# Altium schematic symbol library ARCOM_Connectors.SchLib: 79 symbols
Pins are listed as number, name and electrical type; pins without a type are passive.

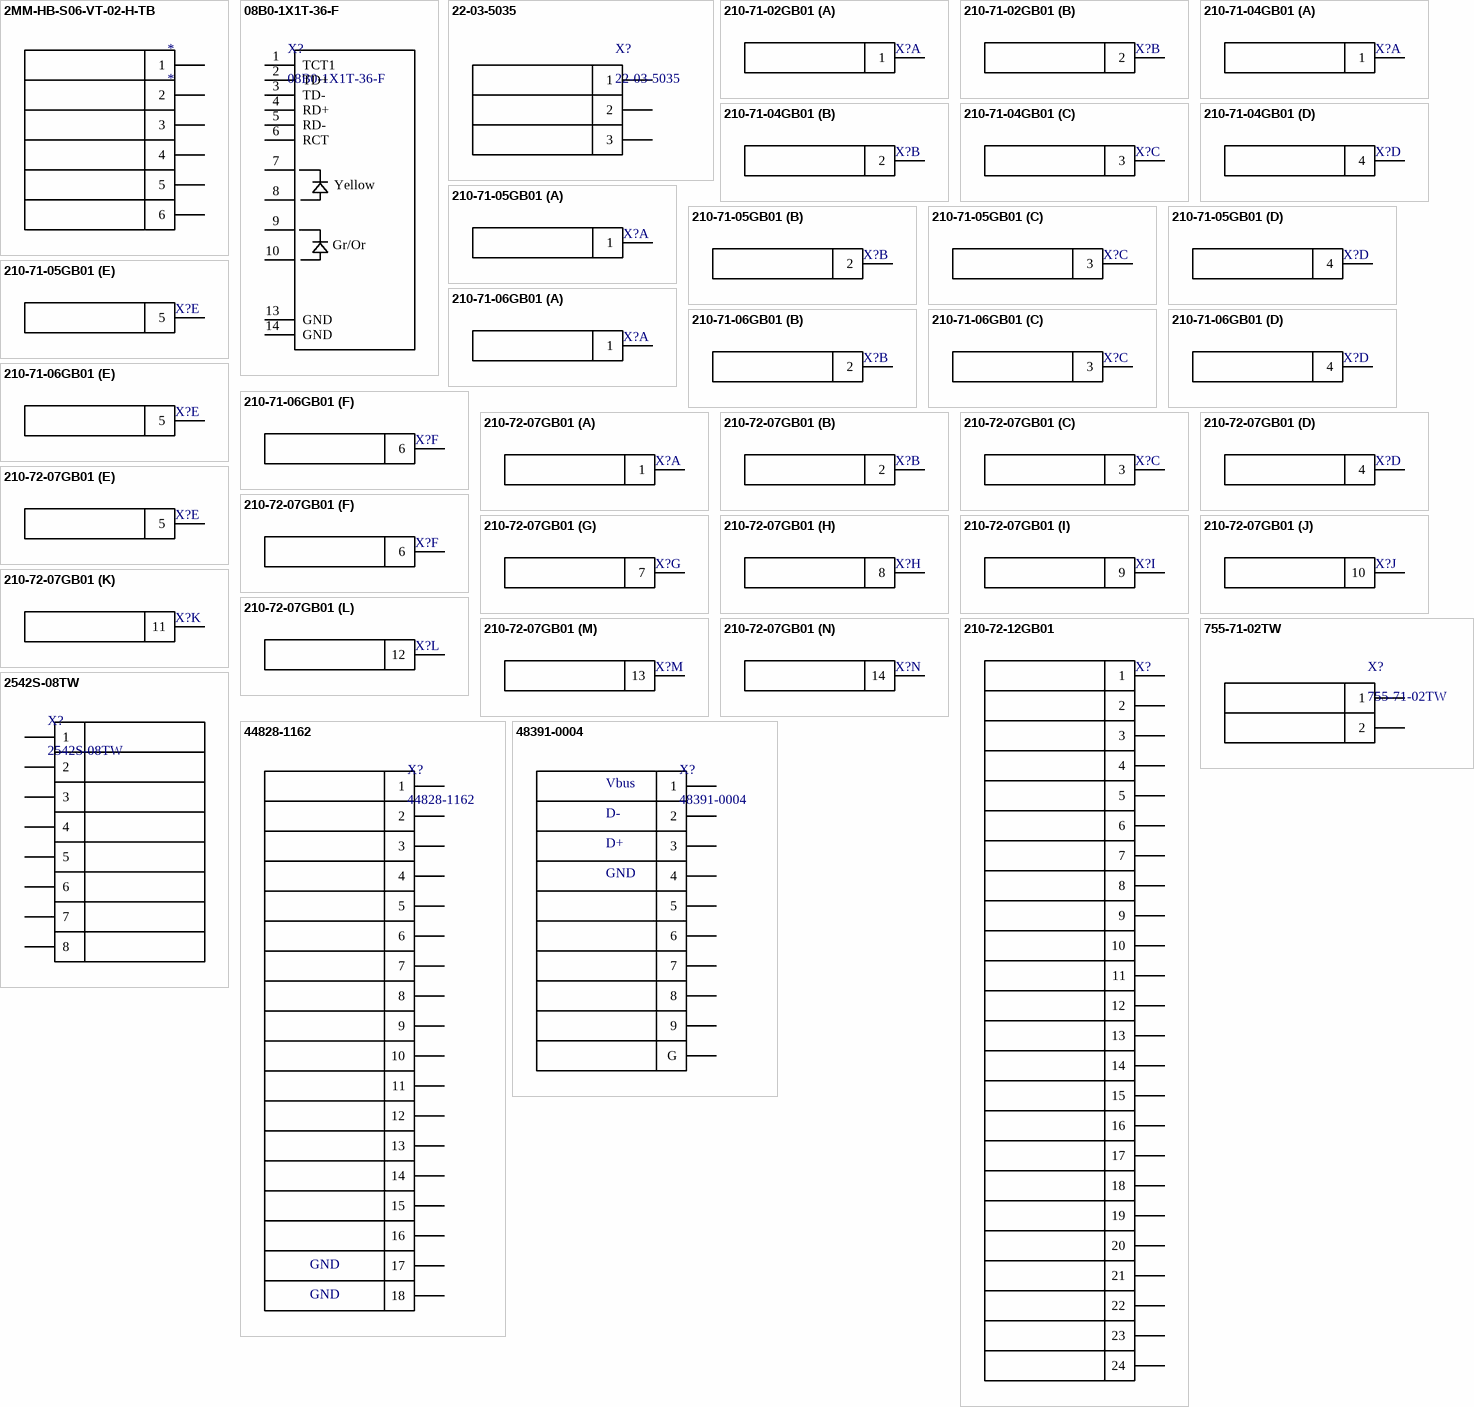
[diagram p0: symbols 2MM-HB-S06-VT-02-H-TB to 48391-0004]

## 2MM-HB-S06-VT-02-H-TB
designator *
footprint 2mm_6pin
pins: 1, 2, 3, 4, 5, 6

## 08B0-1X1T-36-F
designator X?
RJ-45 (MagJack (4cores, MDIX, CM termination)); Manufacturer: Bel Fuse inc.; ComponentLink1Description: Manufacturer; ComponentLink1URL: http://belfuse.com/; ComponentLink2Description: Datasheet; ComponentLink2URL: http://belfuse.com/pdfs/08B0-1X1T-36-F.pdf; Manufacturer P/N: 08B0-1X1T-36-F; Part: 08B0-1X1T-36-F; Family: Connectors
footprint Ethernet_JP011821
pins: 1 TCT1, 2 TD+, 3 TD-, 4 RD+, 5 RD-, 6 RCT, 7, 8, 9, 10, 13 GND, 14 GND
text: Yellow; Gr/Or

## 22-03-5035
designator X?
2.50mm Pitch SPOX Wire-to-Board Header, Vertical, Shrounded, 3 Circuits; Manufacturer: Molex; ComponentLink1Description: Manufacturer; ComponentLink1URL: http://www.molex.com; ComponentLink2Description: Datasheet; ComponentLink2URL: http://www.mouser.com/ds/2/276/0022035035_PCB_HEADERS-158316.pdf; Manufacturer P/N: 22-03-5035; Part: 22-03-5035; Family: Connectors
footprint 22-03-5035
pins: 1, 2, 3

## 210-71-02GB01
designator X?  (value not drawn)
2-pin, 2.54mm Pin Header TH Type; Manufacturer: PINREX ENTERPRISE CO., Ltd; ComponentLink2URL: http://www.pinrex.com.tw/product/A-34%20(210-x1&2&3).pdf; ComponentLink2Description: Datasheet; ComponentLink1Description: Manufacturer; ComponentLink1URL: http://www.pinrex.com.tw/english/main.html; Manufacturer P/N: 210-71-02GB01; Part: 210-71-02GB01; Family: Connectors
footprint 210-71-02GB01
part A pins: 1
part B pins: 2

## 210-71-04GB01
designator X?  (value not drawn)
4-pin, 2.54mm Pin Header TH Type; Manufacturer: PINREX ENTERPRISE CO., Ltd; ComponentLink2URL: http://www.pinrex.com.tw/product/A-34%20(210-x1&2&3).pdf; ComponentLink2Description: Datasheet; ComponentLink1Description: Manufacturer; ComponentLink1URL: http://www.pinrex.com.tw/english/main.html; Manufacturer P/N: 210-71-04GB01; Part: 210-71-04GB01; Family: Connectors
footprint 210-71-04GB01
part A pins: 1
part B pins: 2
part C pins: 3
part D pins: 4

## 210-71-05GB01
designator X?  (value not drawn)
4-pin, 2.54mm Pin Header TH Type; Manufacturer: PINREX ENTERPRISE CO., Ltd; ComponentLink2URL: http://www.pinrex.com.tw/product/A-34%20(210-x1&2&3).pdf; ComponentLink2Description: Datasheet; ComponentLink1Description: Manufacturer; ComponentLink1URL: http://www.pinrex.com.tw/english/main.html; Manufacturer P/N: 210-71-05GB01; Part: 210-71-05GB01; Family: Connectors
footprint 210-71-05GB01
part A pins: 1
part B pins: 2
part C pins: 3
part D pins: 4
part E pins: 5

## 210-71-06GB01
designator X?  (value not drawn)
4-pin, 2.54mm Pin Header TH Type; Manufacturer: PINREX ENTERPRISE CO., Ltd; ComponentLink2URL: http://www.pinrex.com.tw/product/A-34%20(210-x1&2&3).pdf; ComponentLink2Description: Datasheet; ComponentLink1Description: Manufacturer; ComponentLink1URL: http://www.pinrex.com.tw/english/main.html; Manufacturer P/N: 210-71-06GB01; Part: 210-71-06GB01; Family: Connectors
footprint 210-71-06GB01
part A pins: 1
part B pins: 2
part C pins: 3
part D pins: 4
part E pins: 5
part F pins: 6

## 210-72-07GB01
designator X?  (value not drawn)
14-pin, 2.54mm Pin Header TH Type; Manufacturer: PINREX ENTERPRISE CO., Ltd; ComponentLink2URL: http://www.pinrex.com.tw/product/A-34%20(210-x1&2&3).pdf; ComponentLink2Description: Datasheet; ComponentLink1Description: Manufacturer; ComponentLink1URL: http://www.pinrex.com.tw/english/main.html; Manufacturer P/N: 210-72-07GB01; Part: 210-72-07GB01; Family: Connectors
footprint 210-72-07GB01
part A pins: 1
part B pins: 2
part C pins: 3
part D pins: 4
part E pins: 5
part F pins: 6
part G pins: 7
part H pins: 8
part I pins: 9
part J pins: 10
part K pins: 11
part L pins: 12
part M pins: 13
part N pins: 14

## 210-72-12GB01
designator X?  (value not drawn)
14-pin, 2.54mm Pin Header TH Type; Manufacturer: PINREX ENTERPRISE CO., Ltd; ComponentLink2URL: http://www.pinrex.com.tw/product/A-34%20(210-x1&2&3).pdf; ComponentLink2Description: Datasheet; ComponentLink1Description: Manufacturer; ComponentLink1URL: http://www.pinrex.com.tw/english/main.html; Manufacturer P/N: 210-72-12GB01; Part: 210-72-12GB01; Family: Connectors
footprint 210-72-12-GB01
pins: 1, 2, 3, 4, 5, 6, 7, 8, 9, 10, 11, 12, 13, 14, 15, 16, 17, 18, 19, 20, 21, 22, 23, 24

## 755-71-02TW
designator X?
2.5mm Header Stright Type; Manufacturer: Pinrex Enterprise co., LTD; ComponentLink1Description: Manufacturer; ComponentLink1URL: http://pinrex.com.tw/; ComponentLink2Description: Datasheet; ComponentLink2URL: http://pinrex.com.tw/english/All%20Items1.html; Manufacturer P/N: 755-71-02TW; Part: 755-71-02TW; Family: Connectors
footprint 755-71-02_temp
pins: 1, 2

## 2542S-08TW
designator X?
8 pin connector; Manufacturer: Amtek Technology Co., ltd.; Manufacturer P/N: 5W2542S0-108T0WBL-01; ComponentLink1Description: Manufacturer; ComponentLink1URL: http://pinrex.com.tw/english/All%20Items1.html; ComponentLink2Description: Datasheet; ComponentLink2URL: https://cdn.ozdisan.com/ETicaret_Dosya/354525_1267280.PDF; Part: 2542S-08TW; Family: Connectors
footprint 2542S-08TW
pins: 1, 2, 3, 4, 5, 6, 7, 8

## 44828-1162
designator X?
0.80mm Pitch HandyLink™ Surface Mount Receptacle, 16 Circuit; Manufacturer: Molex; ComponentLink1Description: Manufacturer; ComponentLink1URL: http://www.molex.com/; ComponentLink2Description: Datasheet; ComponentLink2URL: http://www.molex.com/molex/products/datasheet.jsp?part=active/0448281162_IO_CONNECTORS.xml&channel=Products; Manufacturer P/N: 44828-1162; Part: 44828-1162; Family: Connectors
footprint 44828-1162 (Molex)
pins: 1, 2, 3, 4, 5, 6, 7, 8, 9, 10, 11, 12, 13, 14, 15, 16, 17, 18
text: GND

## 48391-0004
designator X?
Molex USB 3; ComponentLink1Description: Manufacturer; ComponentLink2Description: Datasheet; Family: Connectors; Manufacturer: Molex; Manufacturer P/N: 48391-0004; Part: 48391-0004; ComponentLink3Description: Drawing
footprint Molex 48391-0004
pins: 1, 2, 3, 4, 5, 6, 7, 8, 9, G
text: Vbus; D-; D+; GND

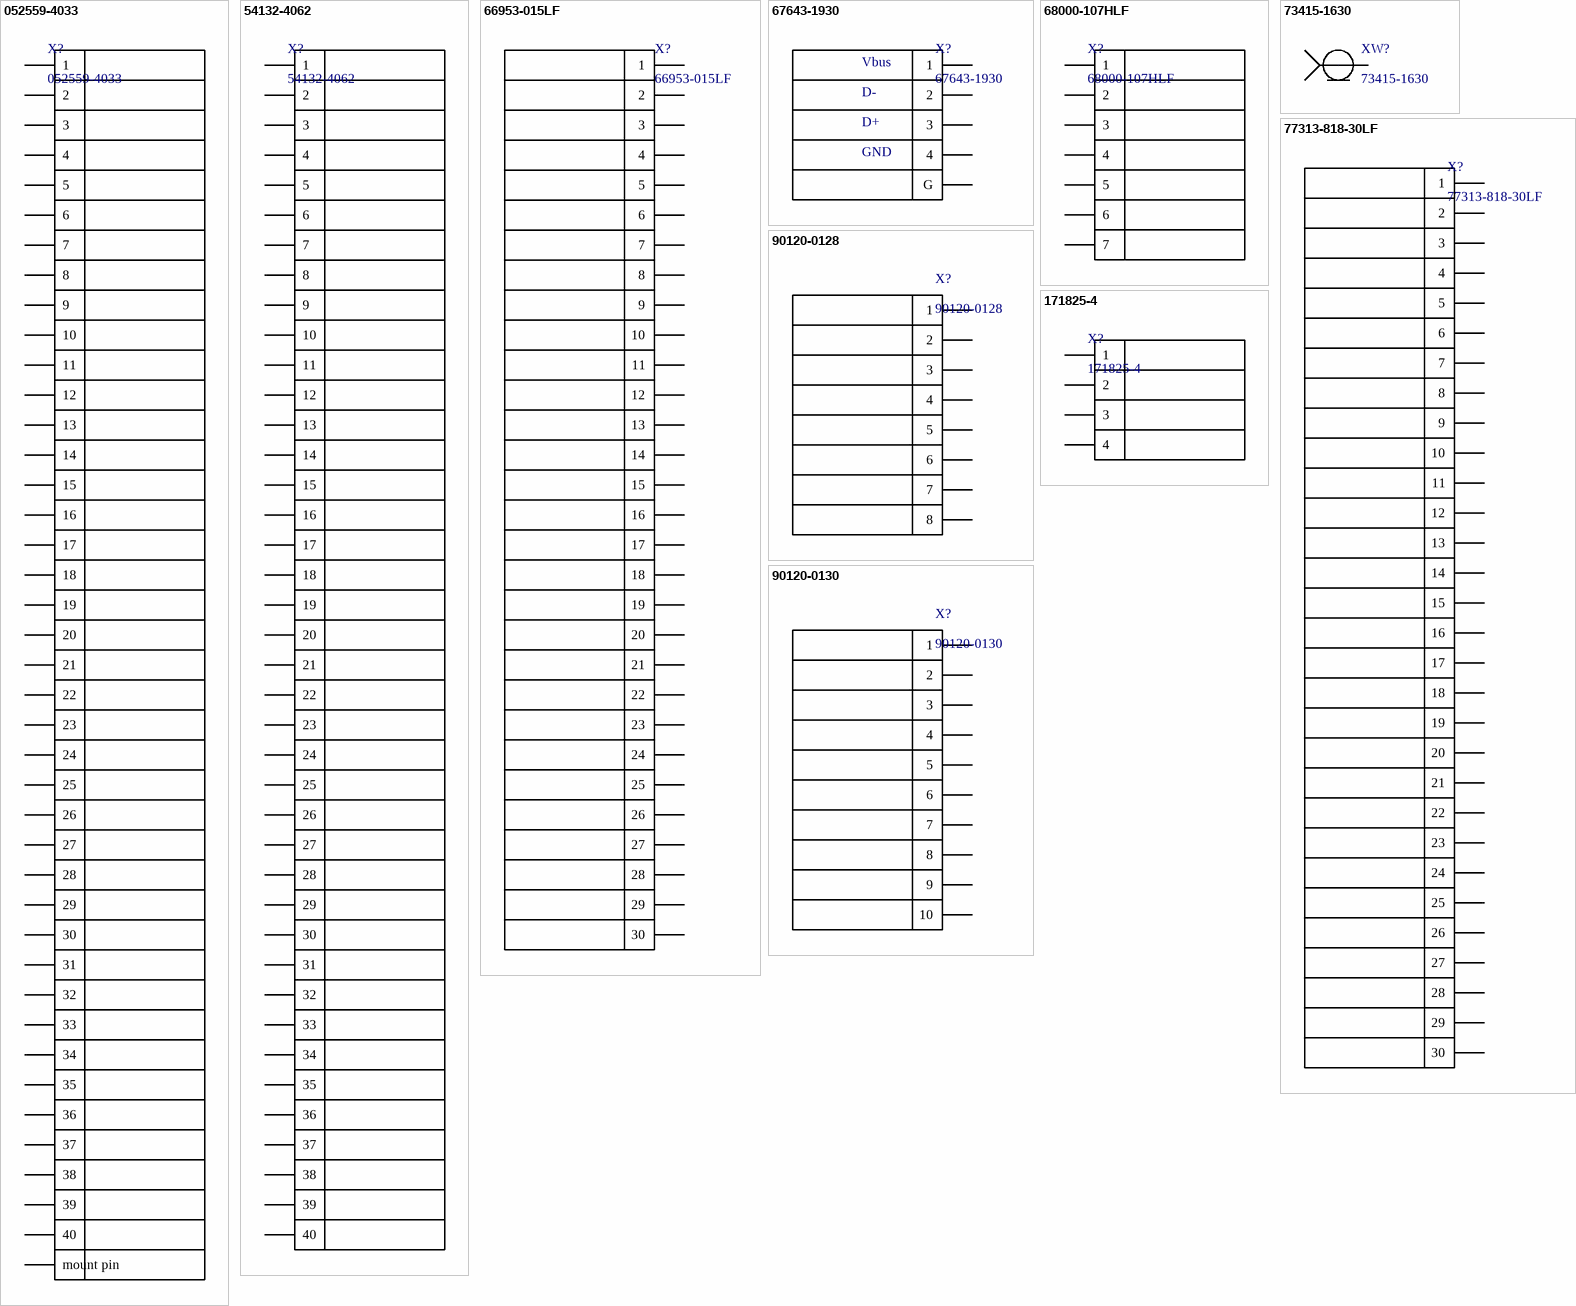
[diagram p1: symbols 052559-4033 to 171825-4]

## 052559-4033
designator X?
Manufacturer: Molex; ComponentLink1Description: Manufacturer; ComponentLink1URL: *; ComponentLink2Description: Datasheet; Manufacturer P/N: 052559-4033; Part: 052559-4033; Family: Connectors
footprint 052559-4033
pins: 1, 2, 3, 4, 5, 6, 7, 8, 9, 10, 11, 12, 13, 14, 15, 16, 17, 18, 19, 20, 21, 22, 23, 24, 25, 26, 27, 28, 29, 30, 31, 32, 33, 34, 35, 36, 37, 38, 39, 40, GND mount pin

## 54132-4062
designator X?
Easy-On FFC/FPC Connector, 0.50mm Pitch, Slider Series, Right-Angle, Bottom  Contact, 2.00mm Height, 40 Circuits, Gold Plating; Manufacturer: Molex; ComponentLink1Description: Manufacturer; ComponentLink1URL: *; ComponentLink2Description: Datasheet; ComponentLink2URL: *; Manufacturer P/N: 54132-4062; Part: 54132-4062; Family: Connectors
footprint 54132-4062
pins: 1, 2, 3, 4, 5, 6, 7, 8, 9, 10, 11, 12, 13, 14, 15, 16, 17, 18, 19, 20, 21, 22, 23, 24, 25, 26, 27, 28, 29, 30, 31, 32, 33, 34, 35, 36, 37, 38, 39, 40

## 66953-015LF
designator X?
Connector Receptacle 30 position 0.100" (2.54mm); Manufacturer: FCI; ComponentLink1Description: Manufacturer; ComponentLink1URL: http://fciconnect.com; ComponentLink2Description: Datasheet; ComponentLink2URL: http://portal.fciconnect.com/res/en/pdffiles/doc_search/66953.pdf; Manufacturer P/N: 66953-015LF; Part: 66953-015LF; ComponentLink3Description: Drawing; ComponentLink3URL: http://portal.fciconnect.com/Comergent//fci/drawing/66953.pdf; Family: Connectors
footprint 66953-015LF
pins: 1, 2, 3, 4, 5, 6, 7, 8, 9, 10, 11, 12, 13, 14, 15, 16, 17, 18, 19, 20, 21, 22, 23, 24, 25, 26, 27, 28, 29, 30

## 67643-1930
designator X?
Molex USB 2; ComponentLink1Description: Manufacturer; ComponentLink2Description: Datasheet; Family: Connectors; Manufacturer: Molex; Manufacturer P/N: 67643-1930; Part: 67643-1930; ComponentLink3Description: Drawing
footprint Molex 67643-1930
pins: 1, 2, 3, 4, G
text: Vbus; D-; D+; GND

## 68000-107HLF
designator X?
7 Pins,  2.54mm Header, Straight Type; Manufacturer: FCI Electronics; ComponentLink1Description: Manufacturer; ComponentLink1URL: http://www.fci.com/; ComponentLink2Description: Datasheet; ComponentLink2URL: http://www.mouser.com/ds/2/154/68000-274373.pdf; Manufacturer P/N: 68000-107HLF; Part: 68000-107HLF; Family: Connectors
footprint PH1S-107GB
footprint 68000-107HLF
pins: 1, 2, 3, 4, 5, 6, 7

## 73415-1630
designator XW?
MCX (Coaxial Connectors MCX 50 Ohms ); Manufacturer: Molex; ComponentLink1Description: Manufacturer; ComponentLink1URL: www.molex.com; ComponentLink2Description: Datasheet; ComponentLink2URL: https://www.mouser.com/ds/2/276/0733660380_RF_COAX_CONNECTORS-702521.pdf; Family: Connectors; Manufacturer P/N: 73415-1630; Part: 73415-1630
footprint MCX_734151630
pins: 1, 2

## 77313-818-30LF
designator X?
mating with 66953-015LF; ComponentLink1Description: *; ComponentLink1URL: *; ComponentLink2Description: *; ComponentLink2URL: *; Manufacturer: *; Manufacturer P/N: *; Part: *; Family: Connectors
footprint 77313-818-30LF
pins: 1, 2, 3, 4, 5, 6, 7, 8, 9, 10, 11, 12, 13, 14, 15, 16, 17, 18, 19, 20, 21, 22, 23, 24, 25, 26, 27, 28, 29, 30

## 90120-0128
designator X?
8pin, 2.5mm Header Stright Type; Manufacturer: Pinrex Enterprise co., LTD; Manufacturer P/N: 755-71-02TW; ComponentLink1Description: Manufacturer; ComponentLink1URL: https://www.molex.com/molex/home; ComponentLink2Description: Datasheet; ComponentLink2URL: http://www.farnell.com/datasheets/2789004.pdf; Part: 755-71-02TW; Family: Connectors
footprint 90120-0128 (Molex, 8 pin)
pins: 1, 2, 3, 4, 5, 6, 7, 8

## 90120-0130
designator X?
10pin, 2.5mm Header Stright Type; Manufacturer: Molex; Manufacturer P/N: 901200130; ComponentLink1Description: Manufacturer; ComponentLink1URL: https://www.molex.com/molex/home; ComponentLink2Description: Datasheet; ComponentLink2URL: https://www.molex.com/en-us/products/part-detail/901200130?display=pdf; Part: 901200130; Family: Connectors
footprint 901200130 (Molex 90120-0130, 10-pin)
pins: 1, 2, 3, 4, 5, 6, 7, 8, 9, 10

## 171825-4
designator X?
Wire-To-Board connector, El Series, Through Hole, Header, 4, 2.5mm; Manufacturer: TE connectivity; ComponentLink1Description: Manufacturer; ComponentLink1URL: *; ComponentLink2Description: Datasheet; ComponentLink2URL: *; Manufacturer P/N: 171825-4; Part: 171825-4; Family: Connectors
footprint 171825-4
pins: 1, 2, 3, 4

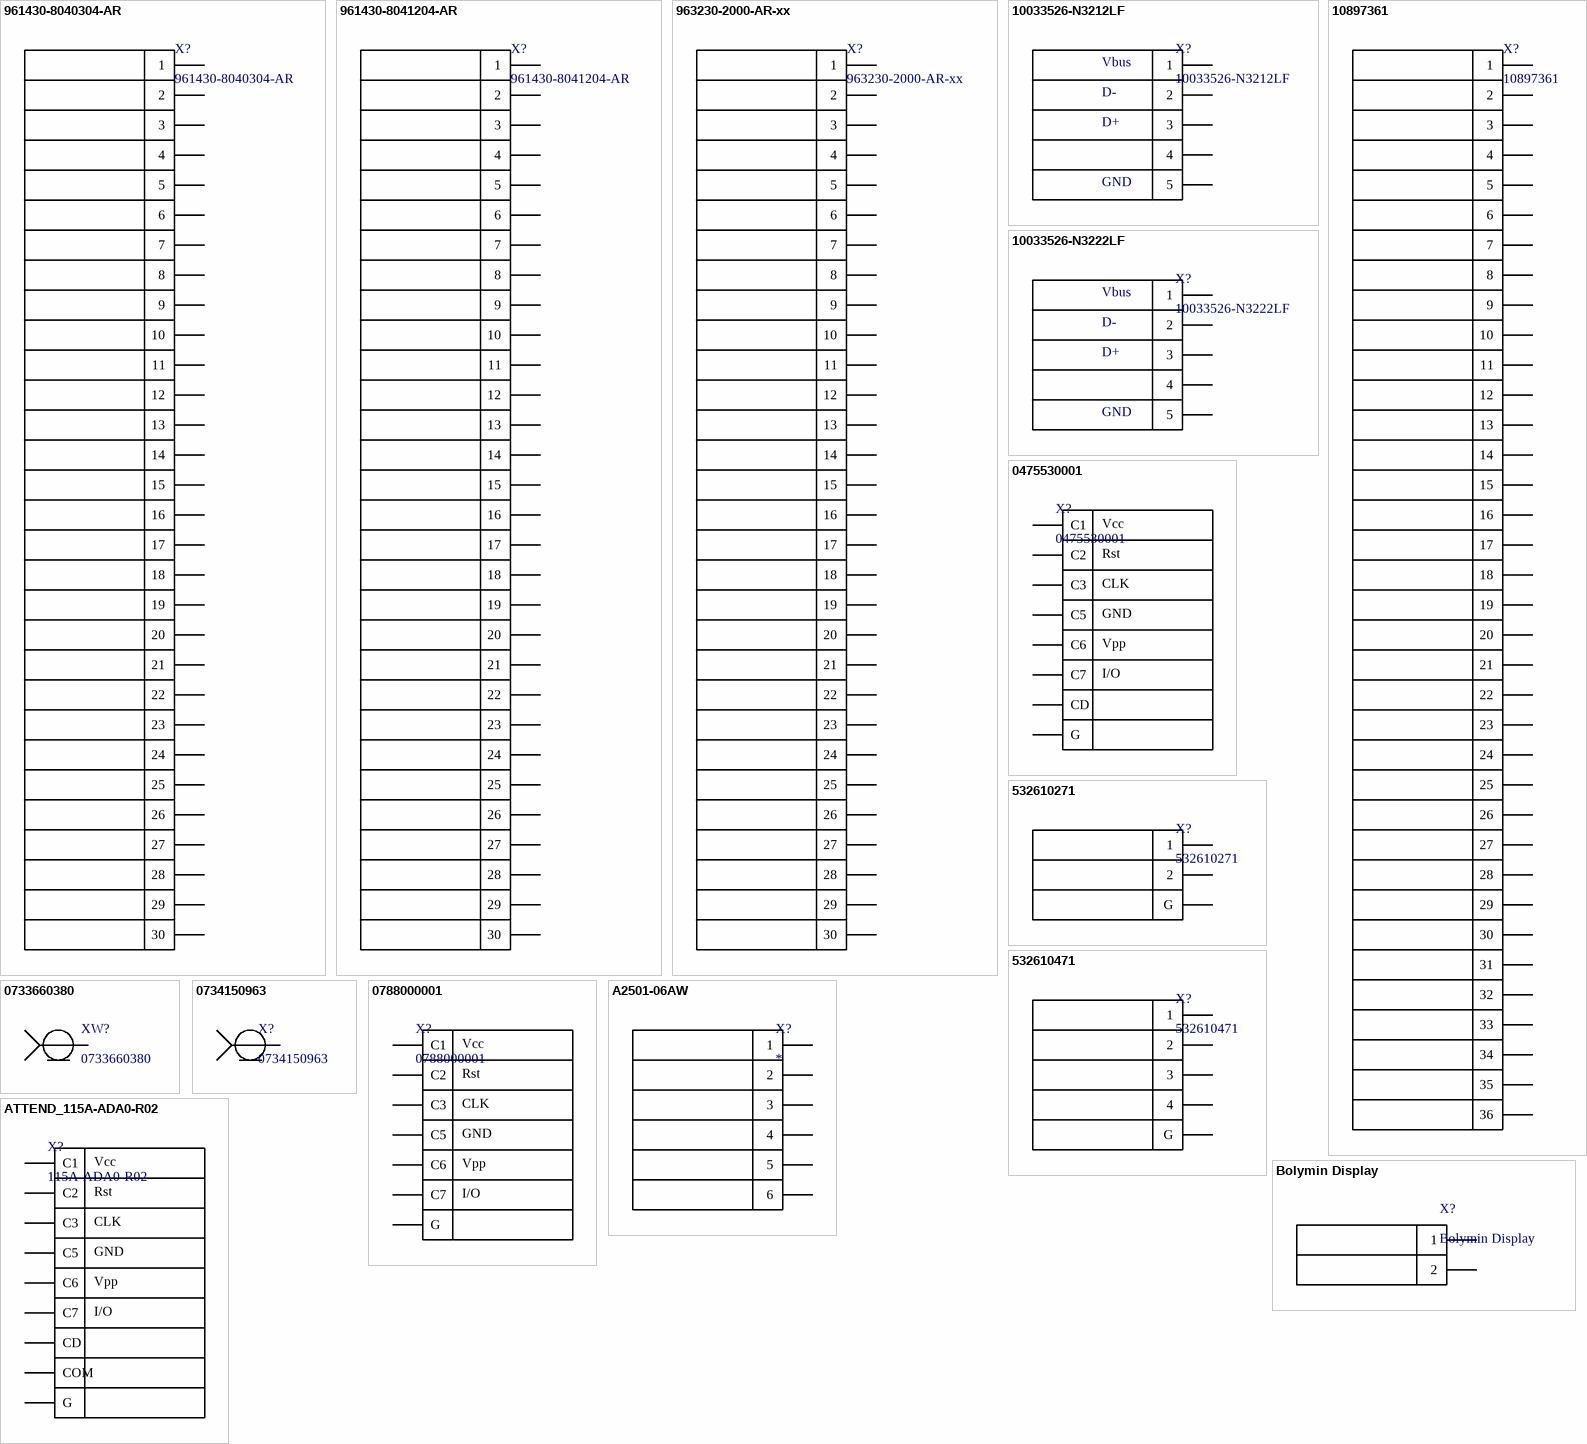
[diagram p2: symbols 961430-8040304-AR to Bolymin Display]

## 961430-8040304-AR
designator X?
Connector Receptacle 30 position 0.100" (2.54mm); Manufacturer: 3M; ComponentLink1Description: Manufacturer; ComponentLink2Description: Datasheet; Manufacturer P/N: 961430-8040304-AR; Part: 961430-8040304-AR; ComponentLink3Description: Drawing; Family: Connectors
footprint 961430-8040304-AR
pins: 1, 2, 3, 4, 5, 6, 7, 8, 9, 10, 11, 12, 13, 14, 15, 16, 17, 18, 19, 20, 21, 22, 23, 24, 25, 26, 27, 28, 29, 30

## 961430-8041204-AR
designator X?
Connector Receptacle 30 position 0.100" (2.54mm); Manufacturer: 3M; ComponentLink1Description: Manufacturer; ComponentLink2Description: Datasheet; Manufacturer P/N: 961430-8041204-AR; Part: 961430-8041204-AR; ComponentLink3Description: Drawing; Family: Connectors
footprint 961430-8041204-AR
pins: 1, 2, 3, 4, 5, 6, 7, 8, 9, 10, 11, 12, 13, 14, 15, 16, 17, 18, 19, 20, 21, 22, 23, 24, 25, 26, 27, 28, 29, 30

## 963230-2000-AR-xx
designator X?
Connector Receptacle 30 position 0.100" (2.54mm); Manufacturer: 3M; ComponentLink1Description: Manufacturer; ComponentLink2Description: Datasheet; Manufacturer P/N: 963230-2000-AR-xx; Part: 963230-2000-AR-xx; ComponentLink3Description: Drawing; Family: Connectors
footprint 963230-2000-AR-xx
pins: 1, 2, 3, 4, 5, 6, 7, 8, 9, 10, 11, 12, 13, 14, 15, 16, 17, 18, 19, 20, 21, 22, 23, 24, 25, 26, 27, 28, 29, 30

## 10033526-N3212LF
designator X?
MiniUSB (with hole); Manufacturer: Amphenol FCI; ComponentLink1Description: Manufacturer; ComponentLink1URL: http://www.fci.com/; ComponentLink2Description: Datasheet; ComponentLink2URL: http://www.fci.com/media/wysiwyg/files/documentation/datasheet/inputoutput/io_mini_usb2.pdf; Family: Connectors; Manufacturer P/N: 10033526-N3212LF; Part: 10033526-N3212LF; ComponentLink3Description: Drawing; ComponentLink3URL: http://portal.fciconnect.com/Comergent/fci/drawing/10033526.pdf
footprint MiniUSB_B  (10033526-N3212LF)
pins: 1, 2, 3, 4, 5
text: Vbus; D-; D+; GND

## 10033526-N3222LF
designator X?
MiniUSB (without hole); Manufacturer: Amphenol FCI; ComponentLink1Description: Manufacturer; ComponentLink1URL: http://www.fci.com/; ComponentLink2Description: Datasheet; ComponentLink2URL: http://www.fci.com/media/wysiwyg/files/documentation/datasheet/inputoutput/io_mini_usb2.pdf; Family: Connectors; Manufacturer P/N: 10033526-N3222LF; Part: 10033526-N3222LF; ComponentLink3Description: Drawing; ComponentLink3URL: http://portal.fciconnect.com/Comergent/fci/drawing/10033526.pdf
pins: 1, 2, 3, 4, 5
text: Vbus; D-; D+; GND

## 10897361
designator X?
Connector Receptacle 36 position 0.100" (2.54mm); Manufacturer: FCI; Manufacturer P/N: 66953-015LF; ComponentLink1Description: Manufacturer; ComponentLink1URL: https://www.molex.com/molex/home; ComponentLink2Description: Datasheet; ComponentLink2URL: https://www.molex.com/molex/products/part-detail/pcb_headers/0010897361; Part: 66953-015LF; ComponentLink3Description: Drawing; Family: Connectors
footprint Molex_10897361
pins: 1, 2, 3, 4, 5, 6, 7, 8, 9, 10, 11, 12, 13, 14, 15, 16, 17, 18, 19, 20, 21, 22, 23, 24, 25, 26, 27, 28, 29, 30, 31, 32, 33, 34, 35, 36

## 0475530001
designator X?
Mini SIM card holder; ComponentLink1Description: *; ComponentLink1URL: *; ComponentLink2Description: *; ComponentLink2URL: *; Family: *; Manufacturer: *; Manufacturer P/N: *; Part: *
footprint MOLEX 0475530001
pins: C1, C2, C3, C5, C6, C7, CD, GND G
text: Vcc; Rst; CLK; Vpp; I/O

## 532610271
designator X?
2 pin, 1.25mm Pitch PicoBlade Header, Surface mount, Right Angle; Manufacturer: Molex; Manufacturer P/N: 53261-0271; ComponentLink1Description: Manufacturer; ComponentLink1URL: www.molex.com; ComponentLink2Description: Datasheet; ComponentLink2URL: https://www.mouser.com/ds/2/276/0532610271_PCB_HEADERS-171053.pdf; Family: Connectors; Part: 53261-0271
footprint 5326510271
pins: 1, 2, G

## 532610471
designator X?
Molex 4 pin connector; ComponentLink1Description: *; ComponentLink1URL: *; ComponentLink2Description: *; ComponentLink2URL: *; Family: *; Manufacturer: *; Manufacturer P/N: *; Part: *
footprint 5326510471
pins: 1, 2, 3, 4, G

## 0733660380
designator XW?
MCX (Coaxial Connectors MCX 75 Ohms edge mount PCB type); Manufacturer: Molex; Manufacturer P/N: 73366-0380; ComponentLink1Description: Manufacturer; ComponentLink1URL: www.molex.com; ComponentLink2Description: Datasheet; ComponentLink2URL: https://www.mouser.com/ds/2/276/0733660380_RF_COAX_CONNECTORS-702521.pdf; Family: Connectors; Part: 0733660380
footprint MCX_733660380
pins: 1, 2

## 0734150963
designator X?
MMCX; ComponentLink1Description: *; ComponentLink1URL: *; ComponentLink2Description: *; ComponentLink2URL: *; Family: *; Manufacturer: *; Manufacturer P/N: *; Part: *
footprint 0734150963 (For 1.6mm PCB thickness)
pins: 1, 2

## 0788000001
designator X?
Micro-SIM card socket; Manufacturer: Molex; ComponentLink3Descrition: Manufacturer page; ComponentLink1Description: Manufacturer; ComponentLink1URL: www.molex.com; ComponentLink2Description: Datasheet; ComponentLink2URL: http://www.molex.com/pdm_docs/ps/PS-78800-001-001.pdf; ComponentLink3URL: http://www.molex.com/molex/products/datasheet.jsp?part=active/0788000001_MEMORY_CARD_SOCKET.xml&channel=Products&Lang=en-US; Family: Connector; Manufacturer P/N: 0788000001; Part: 0788000001
footprint 0788000001
pins: C1, C2, C3, C5, C6, C7, GND G
text: Vcc; Rst; CLK; Vpp; I/O

## A2501-06AW
designator X?
footprint A2501-06AW (aka S6B-XH-A, 2317RJ-06 or WK-06R)
pins: 1, 2, 3, 4, 5, 6

## ATTEND_115A-ADA0-R02
designator X?, comment 115A-ADA0-R02
Mini SIM card Holder; Manufacturer: ATTEND; Part: 115A-ADA0-R02; Manufacturer P/N: 115A-ADA0-R02; Family: *; ComponentLink1Description: *; ComponentLink1URL: *; ComponentLink2Description: *; ComponentLink2URL: *
footprint Attend_115A-ADA0-R02
pins: C1, C2, C3, C5, C6, C7, CD, COM, GND G
text: Vcc; Rst; CLK; Vpp; I/O

## Bolymin Display
designator X?
2.5mm Header Stright Type; Manufacturer P/N: BO12864IFPHH411$; ComponentLink1Description: Manufacturer; ComponentLink2Description: Datasheet; Manufacturer: Bolymin; Part: BO12864IFPHH411$; Family: Connectors
footprint Bolymin_display
pins: 1, 2

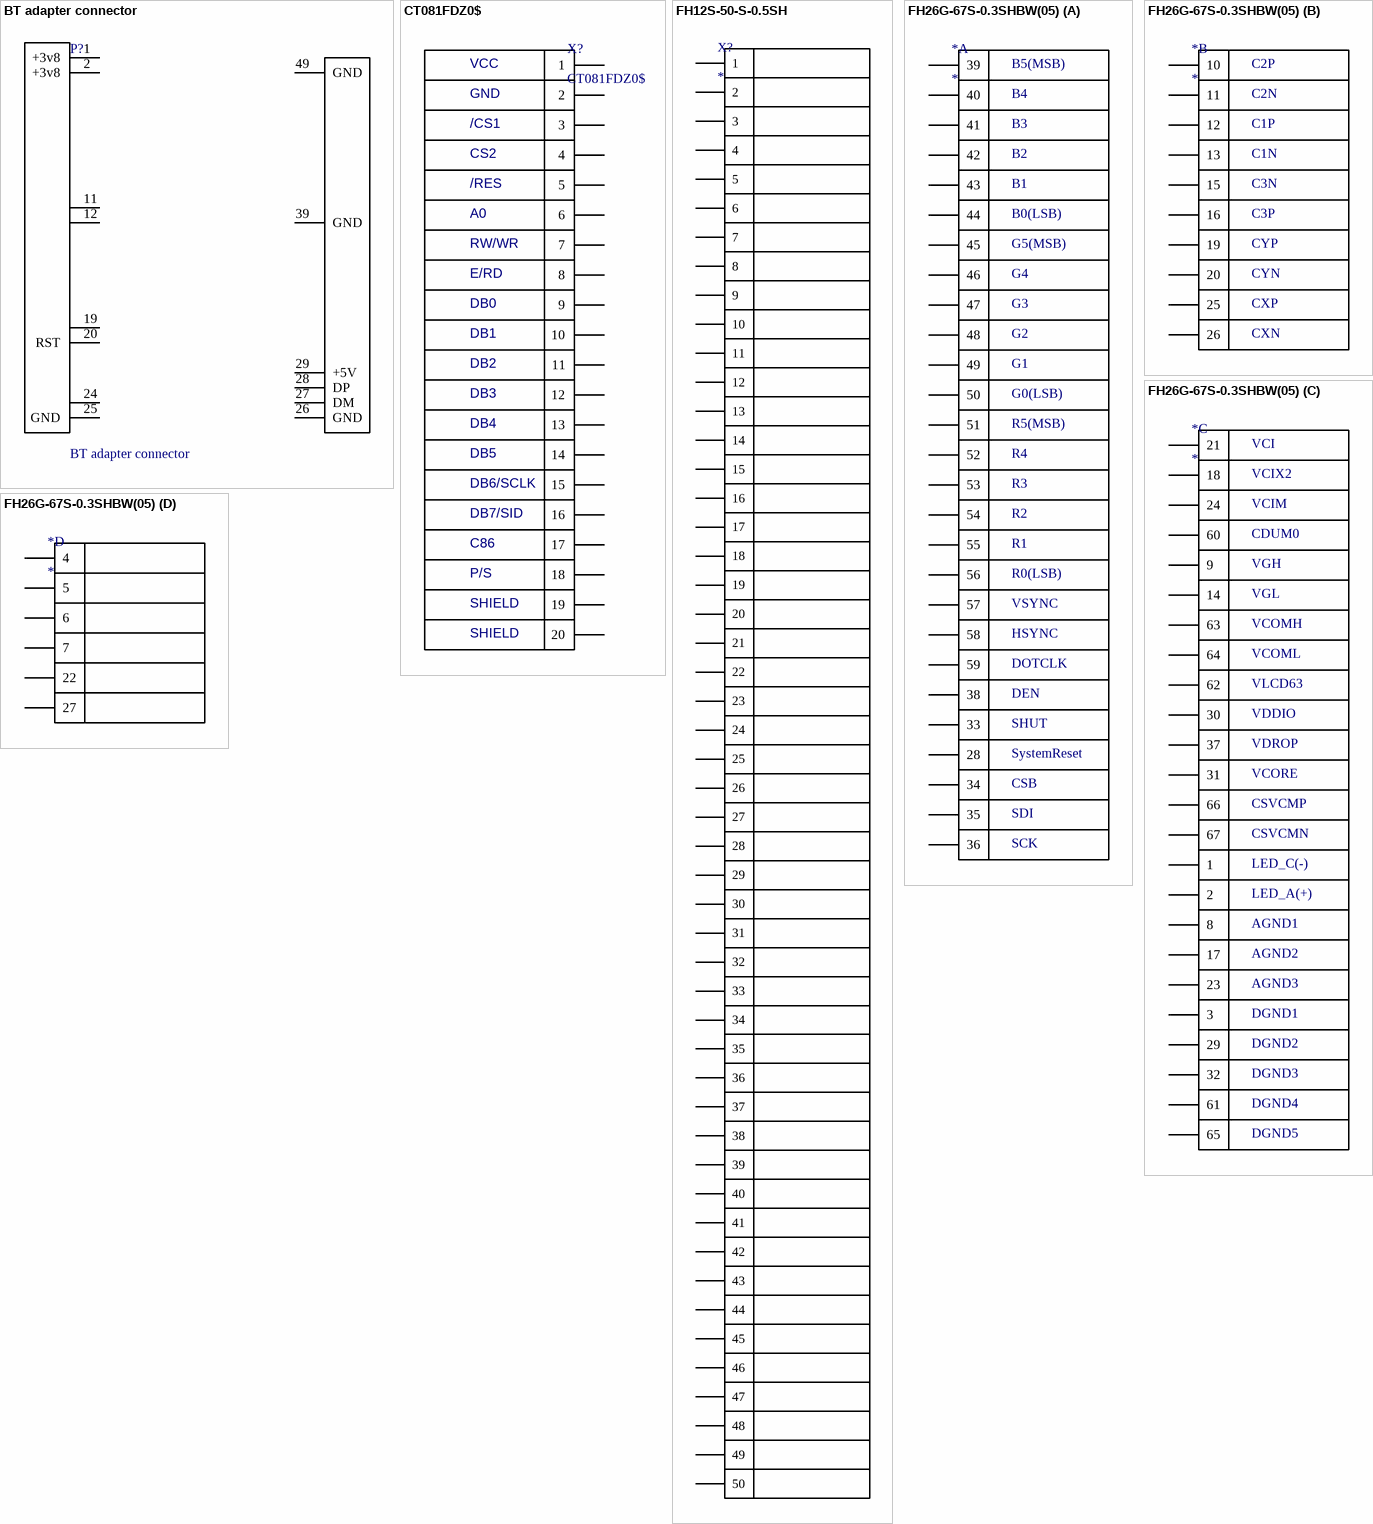
[diagram p3: symbols BT adapter connector to FH26G-67S-0.3SHBW(05)]

## BT adapter connector
designator P?
LatestRevisionDate: 17-Jul-2002; LatestRevisionNote: Re-released for DXP Platform.; Publisher: Altium Limited; Family: Connectors
footprint BT_Adapter (Connector; Header; 25 Position)
pins: 1 +3v8, 2 +3v8, 11, 12, 19, 20 RST, 24, 25 GND, 26 GND, 27 DM, 28 DP, 29 +5V, 39 GND, 49 GND

## CT081FDZ0$
designator X?
0.5mm Pitch Connector for FPC/FFC; ComponentLink1Description: *; ComponentLink1URL: *; ComponentLink2Description: *; ComponentLink2URL: *; Manufacturer: *; Manufacturer P/N: CT081FDZ0$; Part: CT081FDZ0$; Family: Connectors
footprint LCD_connector
pins: 1, 2, 3, 4, 5, 6, 7, 8, 9, 10, 11, 12, 13, 14, 15, 16, 17, 18, 19, 20
text: VCC; GND; /CS1; CS2; /RES; A0; RW/WR; E/RD; DB0; DB1; DB2; DB3; DB4; DB5; DB6/SCLK; DB7/SID; C86; P/S; SHIELD

## FH12S-50-S-0.5SH
designator X?
footprint FH12S-50-S-0.5SH
pins: 1, 2, 3, 4, 5, 6, 7, 8, 9, 10, 11, 12, 13, 14, 15, 16, 17, 18, 19, 20, 21, 22, 23, 24, 25, 26, 27, 28, 29, 30, 31, 32, 33, 34, 35, 36, 37, 38, 39, 40, 41, 42, 43, 44, 45, 46, 47, 48, 49, 50

## FH26G-67S-0.3SHBW(05)
designator *
CONN FPC BOTTOM 67POS 0.3MM R/A; Manufacturer: Hirose Electric Co., Inc.; Manufacturer p/n: FH26G-67S-0.3SHBW(05); Family: Connector; Part: FH26G-67S-0.3SHBW(05)
footprint FH26-67S-0.3SHW
part A pins: 28, 33, 34, 35, 36, 38, 39, 40, 41, 42, 43, 44, 45, 46, 47, 48, 49, 50, 51, 52, 53, 54, 55, 56, 57, 58, 59
part B pins: 10, 11, 12, 13, 15, 16, 19, 20, 25, 26
part C pins: 1, 2, 3, 8, 9, 14, 17, 18, 21, 23, 24, 29, 30, 31, 32, 37, 60, 61, 62, 63, 64, 65, 66, 67
part D pins: 4, 5, 6, 7, 22, 27
part A text: B5(MSB); B4; B3; B2; B1; B0(LSB); G5(MSB); G4; G3; G2; G1; G0(LSB); R5(MSB); R4; R3; R2; R1; R0(LSB); VSYNC; HSYNC; DOTCLK; DEN; SHUT; SystemReset; CSB; SDI; SCK
part B text: C2P; C2N; C1P; C1N; C3N; C3P; CYP; CYN; CXP; CXN
part C text: VCI; VCIX2; VCIM; CDUM0; VGH; VGL; VCOMH; VCOML; VLCD63; VDDIO; VDROP; VCORE; CSVCMP; CSVCMN; LED_C(-); LED_A(+); AGND1; AGND2; AGND3; DGND1; DGND2; DGND3; DGND4; DGND5

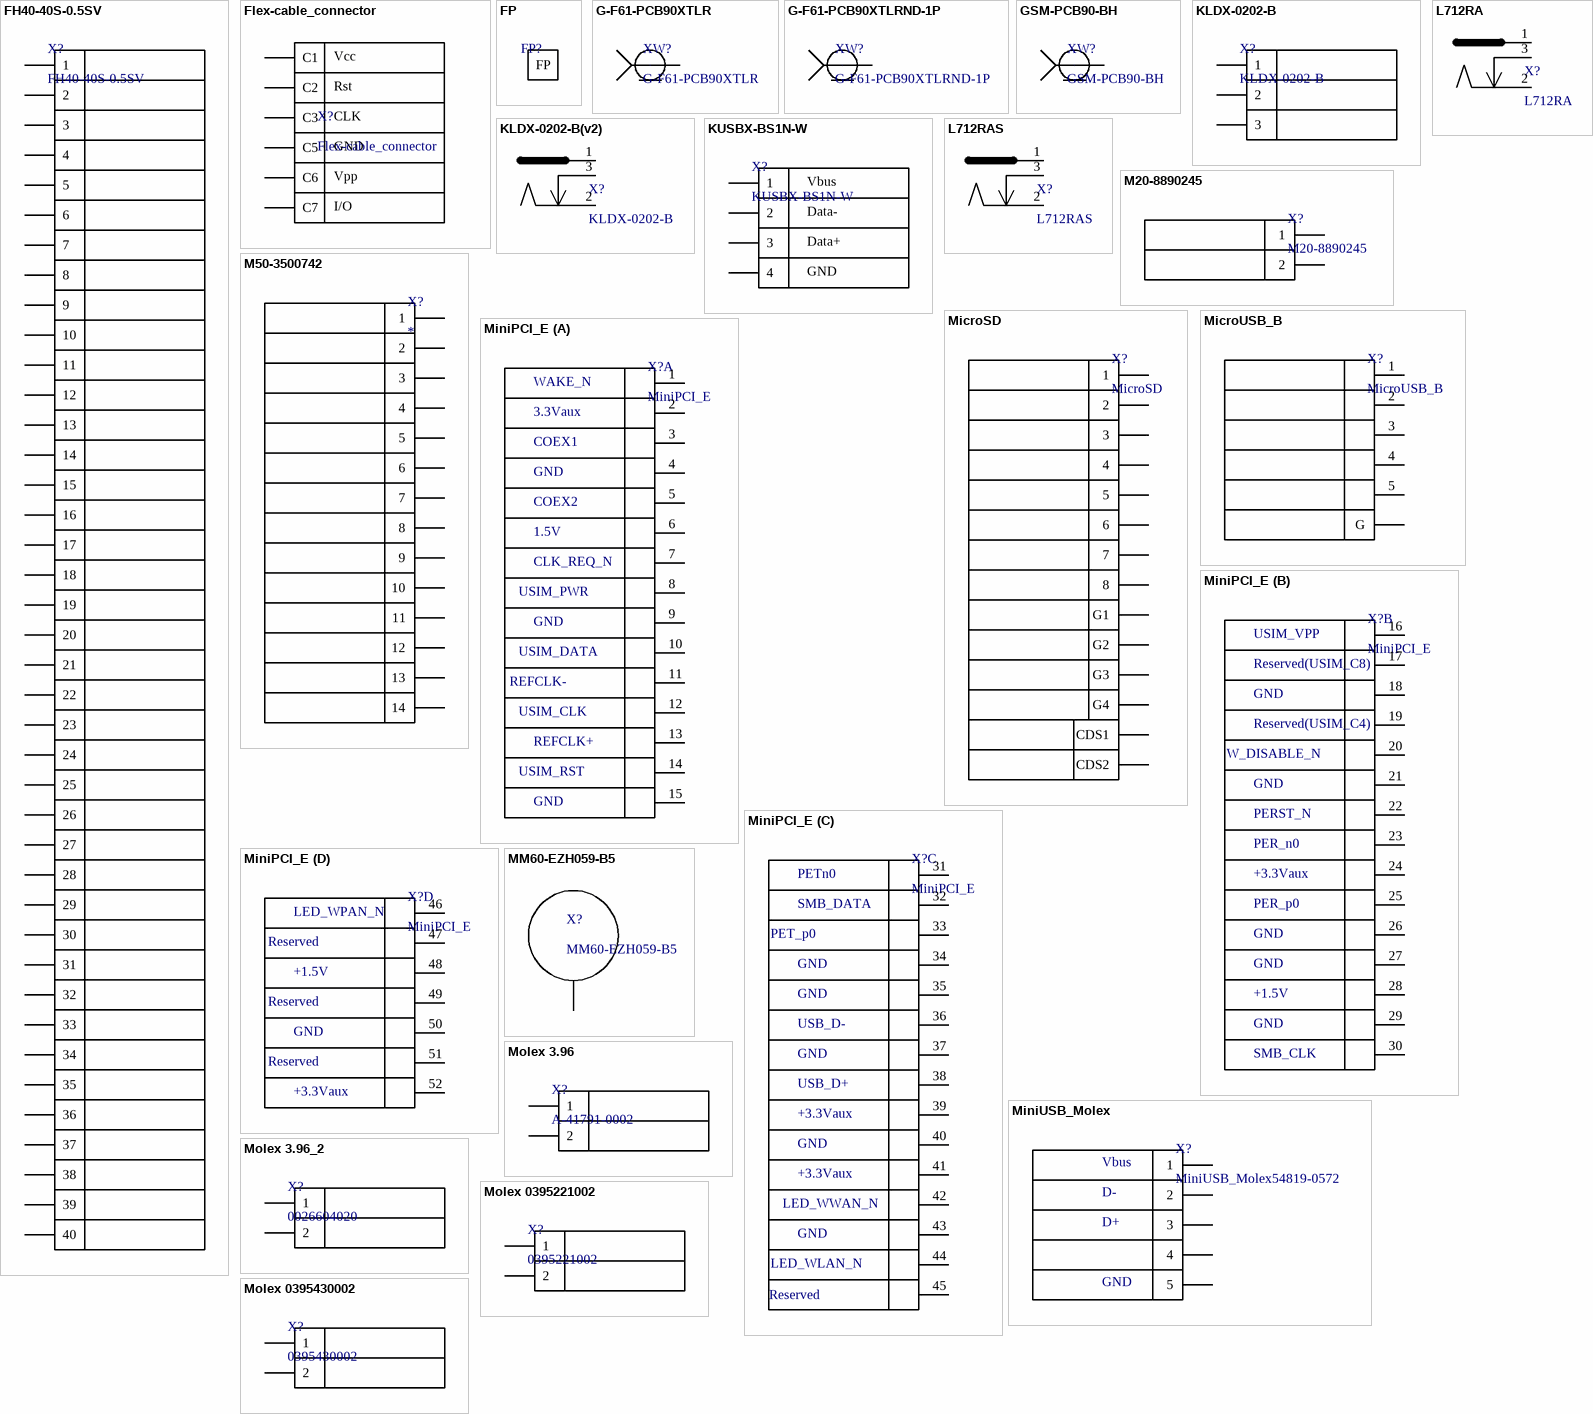
[diagram p4: symbols FH40-40S-0.5SV to Molex 0395430002]

## FH40-40S-0.5SV
designator X?
Manufacturer: Hirose Electric co., ltd.; ComponentLink1Description: Manufacturer; ComponentLink1URL: *; ComponentLink2Description: Datasheet; ComponentLink2URL: http://media.digikey.com/pdf/Data%20Sheets/Hirose%20PDFs/FH40-xxS-0.5SV%20SpecSheet.pdf; Manufacturer P/N: FH40-40S-0.5SV; Part: FH40-40S-0.5SV; Family: Connectors
footprint FH40-xxS-0.5SV
pins: 1, 2, 3, 4, 5, 6, 7, 8, 9, 10, 11, 12, 13, 14, 15, 16, 17, 18, 19, 20, 21, 22, 23, 24, 25, 26, 27, 28, 29, 30, 31, 32, 33, 34, 35, 36, 37, 38, 39, 40

## Flex-cable_connector
designator X?
footprint flex_cable_connector (flex cable connector)
pins: C1, C2, C3, C5, C6, C7
text: Vcc; Rst; CLK; GND; Vpp; I/O

## FP
designator FP?, comment Fiducial Point  (value not drawn)  (no BOM)
Family: Connectors
footprint Fiducial Point
pins: 1 FP

## G-F61-PCB90XTLR
designator XW?
High performance, right angle F type; Manufacturer: Holland Electronics LLC; ComponentLink1Description: Manufacturer; ComponentLink1URL: http://www.hollandelectronics.com; ComponentLink2Description: Datasheet; ComponentLink2URL: http://www.hollandelectronics.com/catalog/upload_file/G-F61-PCB90XTLR.pdf; Manufacturer P/N: G-F61-PCB90XTLR; Part: G-F61-PCB90XTLR; Family: Connectors
footprint G-F61-PCB90XTLR
pins: 1, 2, 3, 4, 5

## G-F61-PCB90XTLRND-1P
designator XW?
High performance, right angle F type; Manufacturer: Holland Electronics LLC; ComponentLink1Description: Manufacturer; ComponentLink1URL: http://www.hollandelectronics.com; ComponentLink2Description: Datasheet; Manufacturer P/N: G-F61-PCB90XTLRND-1P; Part: G-F61-PCB90XTLRND-1P; Family: Connectors
footprint G-F61-PCB90XTLRND-1P
pins: 1, 2, 3, 4, 5

## GSM-PCB90-BH
designator XW?
RF Connector; Manufacturer: Holland Electronics LLC; ComponentLink1Description: Manufacturer; ComponentLink1URL: http://www.hollandelectronics.com; ComponentLink2Description: Datasheet; Manufacturer P/N: GSM-PCB90-BH; Part: GSM-PCB90-BH; Family: Connectors
footprint GSM-PCB90-BH
pins: 1, 2, 3, 4, 5

## KLDX-0202-B
designator X?
Power connector; Manufacturer: Kycon; ComponentLink1Description: Manufacturer; ComponentLink1URL: *; ComponentLink2Description: Datasheet; ComponentLink2URL: *; ComponentLink3Description: Drawing; ComponentLink3URL: http://www.kycon.com/Pub_Eng_Draw/KLDX-0202-X.PDF; Family: Connectors; Manufacturer P/N: KLDX-0202-B
footprint KLDX-0202-B(Power)
pins: 1, 2, 3

## KLDX-0202-B(v2)
designator X?, comment KLDX-0202-B
Power connector; Manufacturer: Kycon; Family: Connectors; Manufacturer p/n: KLDX-0202-B; Part: KLDX-0202-B
footprint KLDX-0202-B(Power)
pins: 1, 2, 3

## KUSBX-BS1N-W
designator X?
USB Connectors B TYPE RECEPTACLE WHITE; Manufacturer: KYCON inc.; ComponentLink1Description: Manufacturer; ComponentLink1URL: http://www.kycon.com; ComponentLink2Description: Datasheet; ComponentLink2URL: http://www.mouser.com/ds/2/222/KUSBX-371999.pdf; Manufacturer P/N: KUSBX-BS1N-W; Part: KUSBX-BS1N-W; Family: Connectors
footprint KUSBX-BS1N-W
pins: 1, 2, 3, 4
text: Vbus; Data-; Data+; GND

## L712RA
designator X?
DC Power Connectors HI-TEMP 2.5MM SLD R; Manufacturer: Switchcraft; ComponentLink1Description: *; ComponentLink1URL: *; ComponentLink2Description: Datasheet; ComponentLink2URL: https://www.mouser.co.uk/datasheet/2/393/NPB_583_-_sealed_power_plug___jack100315_edit7_30_-794836.pdf; Family: Connectors; Manufacturer P/N: L712RA; Part: L712RA
footprint L712RA
pins: 1, 2, 3

## L712RAS
designator X?
DC Power Connectors HI-TEMP 2.5MM SLD R; Manufacturer: Switchcraft; ComponentLink1Description: *; ComponentLink1URL: *; ComponentLink2Description: Datasheet; ComponentLink2URL: https://www.mouser.co.uk/datasheet/2/393/NPB_583_-_sealed_power_plug___jack100315_edit7_30_-794836.pdf; Family: Connectors; Manufacturer P/N: L712RAS; Part: L712RAS
footprint L712RAS
pins: 1, 2, 3

## M20-8890245
designator X?
Manufacturer: Harwin Inc.; ComponentLink1Description: Manufacturer; ComponentLink1URL: *; ComponentLink2Description: Datasheet; ComponentLink2URL: *; Manufacturer P/N: M20-8890245; Family: Connectors; Part: M20-8890245
footprint M20-8890245
pins: 1, 2

## M50-3500742
designator X?
14pin, 2rows, 1.27 pitch; Manufacturer: Harwin; Manufacturer p/n: M50-3500742; Part: M50-3500742
footprint M50-3500742
pins: 1, 2, 3, 4, 5, 6, 7, 8, 9, 10, 11, 12, 13, 14

## MicroSD
designator X?
Molex 104031-0811; ComponentLink1Description: *; ComponentLink1URL: *; ComponentLink2Description: *; ComponentLink2URL: *; Family: *; Manufacturer: Molex; Manufacturer P/N: 104031-0811; Part: *
footprint MicroSD
pins: 1, 2, 3, 4, 5, 6, 7, 8, CDS1, CDS2, G1, G2, G3, G4

## MicroUSB_B
designator X?
MicroUSB_B Molex 47346-0001
footprint MicroUSB_B
footprint MicroUSB_B_2
pins: 1 VBUS, 2 D-, 3 D+, 4 ID, 5 GND, G

## MiniPCI_E
designator X?
part A pins: 1 WAKE_N, 2 VCC, 3 ANT_CTRL0/GPIO1, 4 GND, 5 ANT_CTRL1/GPIO2, 6 NC, 7 NC, 8 USIM_PWR, 9 GND, 10 USIM_DATA, 11 VCC_MSM18_DIG, 12 USIM_CLK, 13 NC, 14 USIM_RST, 15 GND
part B pins: 16 NC, 17 NC, 18 GND, 19 NC, 20 W_DISABLE_N, 21 GND, 22 NC, 23 NC, 24 VCC, 25 NC, 26 GND, 27 GND, 28 NC, 29 GND, 30 I2C_CLK
part C pins: 31 NC, 32 I2C_DATA, 33 SYSTEM_RESET_N, 34 GND, 35 GND, 36 USB_D-, 37 GND, 38 USB_D+, 39 VCC, 40 GND, 41 VCC, 42 WAN_LED_N, 43 GND, 44 ANT_CTRL2/GPIO3, 45 PCM_CLK/I2S_CLK
part D pins: 46 DPR/GPIO4, 47 PCM_DOUT/I2S_DOUT, 48 NC, 49 PCM_DIN/I2S_DIN, 50 GND, 51 PCM_WS/I2S_SYNC, 52 VCC
part A text: 3.3Vaux; COEX1; COEX2; 1.5V; CLK_REQ_N; REFCLK-; REFCLK+
part B text: USIM_VPP; Reserved(USIM_C8); Reserved(USIM_C4); PERST_N; PER_n0; +3.3Vaux; PER_p0; +1.5V; SMB_CLK
part C text: PETn0; SMB_DATA; PET_p0; +3.3Vaux; LED_WWAN_N; LED_WLAN_N; Reserved
part D text: LED_WPAN_N; Reserved; +1.5V; +3.3Vaux

## MiniUSB_Molex
designator X?, comment MiniUSB_Molex54819-0572
MiniUSB (Molex); ComponentLink1Description: Manufacturer; ComponentLink2Description: Datasheet; Family: Connectors; Manufacturer: Molex; Manufacturer P/N: 54819-0572; Part: 54819-0572; ComponentLink3Description: Drawing
footprint MiniUSB_B  (Molex)
pins: 1, 2, 3, 4, 5
text: Vbus; D-; D+; GND

## MM60-EZH059-B5
designator X?
footprint MM60-EZH059-B5
pins: G

## Molex 3.96
designator X?, comment A-41791-0002
ComponentLink1Description: *; ComponentLink1URL: *; ComponentLink2Description: *; ComponentLink2URL: *; Family: *; Manufacturer: *; Manufacturer P/N: *; Part: *
footprint Molex 3.96
pins: 1, 2

## Molex 3.96_2
designator X?, comment 0026604020
Manufacturer: Molex; ComponentLink1Description: *; ComponentLink1URL: *; ComponentLink2Description: *; ComponentLink2URL: *; Family: Connector; Manufacturer P/N: 0026604020; Part: 0026604020
footprint Molex 3.96_2 (Molex A-41791-0002 (26-60-4020))
pins: 1, 2

## Molex 0395221002
designator X?, comment 0395221002
5.00mm Pitch Eurostyle Horizontal PCB Header, 2 Circuits; Manufacturer: Molex; ComponentLink1Description: *; ComponentLink1URL: *; ComponentLink2Description: *; ComponentLink2URL: *; Family: Connector; Manufacturer p/n: 0395221002; Part: 0395221002
footprint Molex_0395221002
pins: 1, 2

## Molex 0395430002
designator X?, comment 0395430002
Fixed Terminal Blocks 5MM EURO 02P FIXED VT; Manufacturer: Molex; ComponentLink1Description: *; ComponentLink1URL: *; ComponentLink2Description: *; ComponentLink2URL: *; Family: Connector; Manufacturer p/n: 0395430002; Part: 0395430002
footprint Molex_0395430002
pins: 1, 2

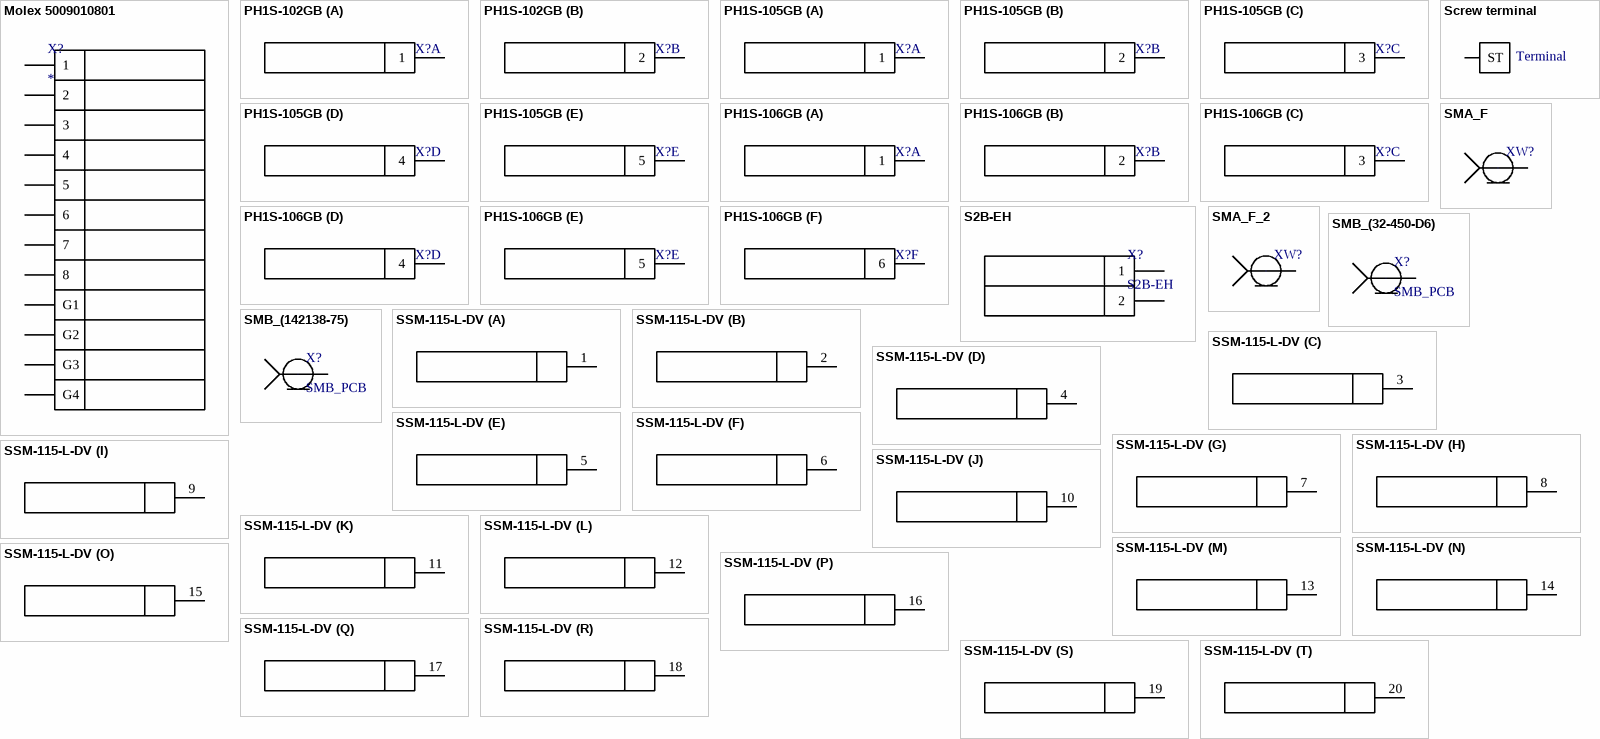
[diagram p5: symbols Molex 5009010801 to SSM-115-L-DV]

## Molex 5009010801
designator X?
8 Position Card Connector Secure Digital - microSD™ Surface Mount, Right Angle Gold; Manufacturer: Molex; Manufacturer p/n: 5009010801; Family: Connector; Part: 5009010801
footprint Molex_5009010801
pins: 1, 2, 3, 4, 5, 6, 7, 8, 9 G1, 10 G2, 11 G3, 12 G4

## PH1S-102GB
designator X?  (value not drawn)
2-pin, 2.54mm Pin Header TH Type; Manufacturer: PINREX ENTERPRISE CO., Ltd; Manufacturer P/N: 210-71-02GB01; ComponentLink2URL: http://www.pinrex.com.tw/product/A-34%20(210-x1&2&3).pdf; ComponentLink2Description: Datasheet; ComponentLink1Description: Manufacturer; ComponentLink1URL: http://www.pinrex.com.tw/english/main.html; Part: 210-71-02GB01; Family: Connectors
footprint PH1S-102GB
part A pins: 1
part B pins: 2

## PH1S-105GB
designator X?  (value not drawn)
5-pin, 2.54mm Pin Header Straight Type; Manufacturer: PINREX ENTERPRISE CO., Ltd; Manufacturer P/N: 210-71-05GB01; ComponentLink1Description: Manufacturer; ComponentLink1URL: http://www.pinrex.com.tw/english/main.html; ComponentLink2Description: Datasheet; ComponentLink2URL: http://www.pinrex.com.tw/product/A-34%20(210-x1&2&3).pdf; Part: 210-71-05GB01; Family: Connectors
footprint PH1S-105GB
part A pins: 1
part B pins: 2
part C pins: 3
part D pins: 4
part E pins: 5

## PH1S-106GB
designator X?  (value not drawn)
6-pin, 2.54mm Pin Header Straight Type; Manufacturer: PINREX ENTERPRISE CO., Ltd; Manufacturer P/N: 210-71-06GB01; ComponentLink1Description: Manufacturer; ComponentLink1URL: http://www.pinrex.com.tw/english/main.html; ComponentLink2Description: Datasheet; ComponentLink2URL: http://www.pinrex.com.tw/product/A-34%20(210-x1&2&3).pdf; Part: 210-71-06GB01; Family: Connectors
footprint PH1S-106GB
part A pins: 1
part B pins: 2
part C pins: 3
part D pins: 4
part E pins: 5
part F pins: 6

## S2B-EH
designator X?
CONN HEADER R/A 2POS 2.5MM; Manufacturer: JST; ComponentLink1Description: Manufacturer; ComponentLink1URL: www.jst.com; ComponentLink2Description: Datasheet; ComponentLink2URL: https://www.jst.com/products/crimp-style-connectors-wire-to-board-type/hr-connector-crimp-style/; Family: Connectors; Manufacturer P/N: S2B-EH; Part: S2B-EH
footprint S2B-EH
pins: 1, 2

## Screw terminal
designator N?  value Terminal  (hidden comment: Screw terminal)  (no BOM)
Family: Connectors
footprint screw_terminal
pins: 1 ST

## SMA_F
designator XW?  (value not drawn)
Board Edge SMA Connector; Part: 732511290; Manufacturer: Molex Incorporated; ComponentLink1Description: Manufacturer; ComponentLink1URL: http://www.molex.com; ComponentLink2Description: Datasheet; ComponentLink2URL: http://www.molex.com/pdm_docs/sd/732511290_sd.pdf; Manufacturer P/N: 732511290; Family: Connectors
footprint SMA_board_edge
pins: 1, 2, 3, 4, 5

## SMA_F_2
designator XW?  (value not drawn)
SMA Connector; Manufacturer: Molex Incorporated; ComponentLink1Description: Manufacturer; ComponentLink1URL: http://www.molex.com; ComponentLink2Description: Datasheet; ComponentLink2URL: http://www.molex.com/pdm_docs/sd/732511290_sd.pdf; Family: Connectors
footprint SMA_SMD
pins: 1, 2, 3, 4, 5

## SMB_(32-450-D6)
designator X?, comment SMB_PCB
SMB vertical PCB jack; Manufacturer: COAX connectors ltd.; Manufacturer p/n: 32-450-D6; ComponentLink1Description: Manufacturer; ComponentLink1URL: http://www.coax-connectors.com/; ComponentLink2Description: Datasheet; ComponentLink2URL: http://www.coax-connectors.com/media/1675342/32-450-D6-REV-A00-2.PDF; Family: Connector; Part: 32-450-D6
footprint SMB_32-450-D6
pins: 1, 2, 3, 4, 5

## SMB_(142138-75)
designator X?, comment SMB_PCB
SMB vertical PCB jack; Manufacturer: Amphenol; Manufacturer p/n: 142138-75; ComponentLink1Description: Manufacturer; ComponentLink2Description: Datasheet; Family: Connector; Part: 142138-75
footprint Amphenol_142138-75
pins: 1, 2, 3, 4, 5

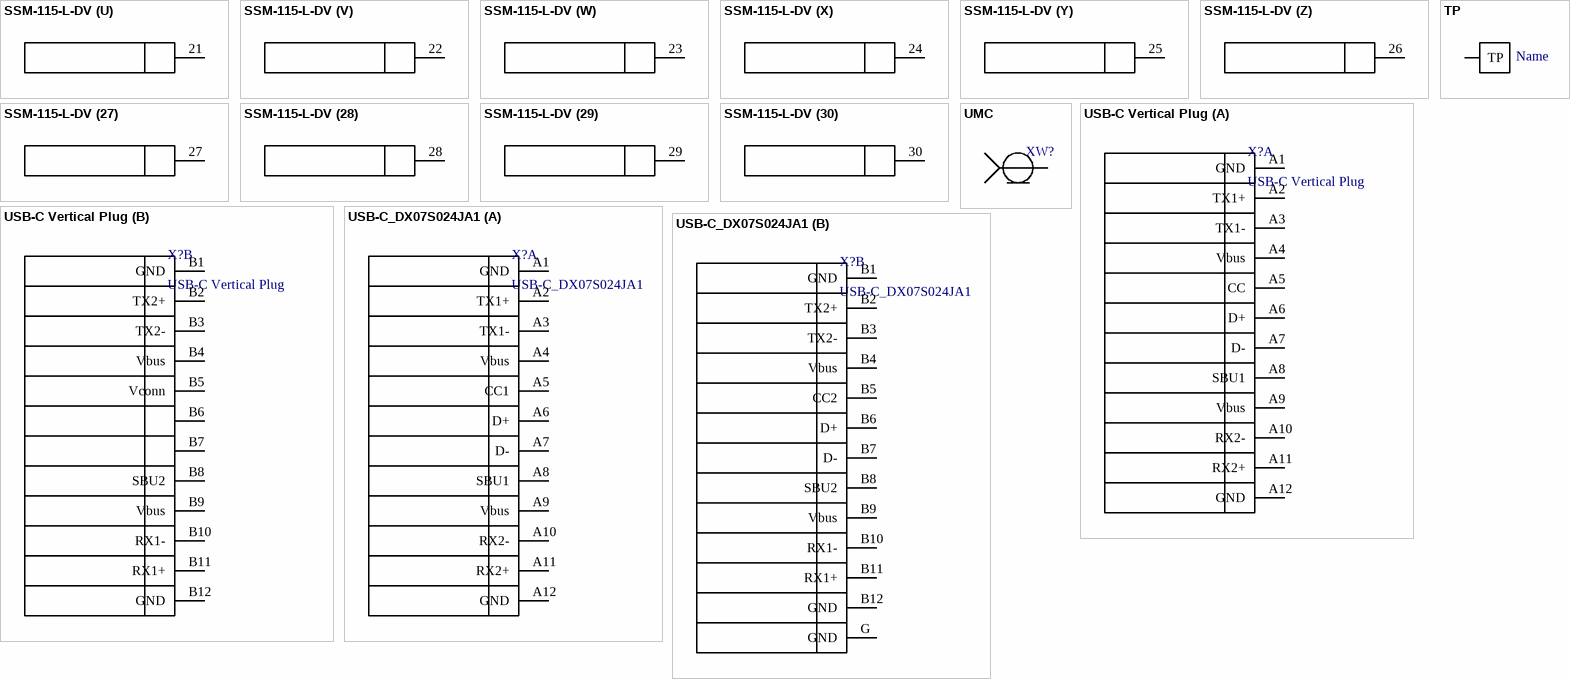
[diagram p6: symbols SSM-115-L-DV to USB-C_DX07S024JA1]

## SSM-115-L-DV
designator X?  (value not drawn)
Headers & wire Housing Surface Mount PCB Socket Strips .100" pitch; Manufacturer: Samtec; Value: 30 pin; Manufacturer p/n: SSM-115-L-D; Family: connector; Part: SSM-115-L-D
footprint SSM-115-L-DV
part A pins: 1
part B pins: 2
part C pins: 3
part D pins: 4
part E pins: 5
part F pins: 6
part G pins: 7
part H pins: 8
part I pins: 9
part J pins: 10
part K pins: 11
part L pins: 12
part M pins: 13
part N pins: 14
part O pins: 15
part P pins: 16
part Q pins: 17
part R pins: 18
part S pins: 19
part T pins: 20
part U pins: 21
part V pins: 22
part W pins: 23
part X pins: 24
part Y pins: 25
part Z pins: 26
part 27 pins: 27
part 28 pins: 28
part 29 pins: 29
part 30 pins: 30

## TP
designator TP?, comment value Name  (hidden comment: Test Point)  (no BOM)
Family: Connectors
footprint TestPoint_0.99mm
footprint TESTPOINT_WO_HOLE
footprint TESTPOINT_ATP
footprint TESTPOINT_ATP2
footprint TESTPOINT_SOLDER
pins: 1 TP

## UMC
designator XW?  (value not drawn)
UMC Connector; Part: 128-0711-201; Manufacturer: Emerson Network Power Connectivity Solution; ComponentLink1Description: Manufacturer; ComponentLink1URL: https://cinchconnectivity.com/OA_HTML/ibeCZzpHome.jsp; ComponentLink2Description: Datasheet; ComponentLink2URL: https://cinchconnectivity.com/OA_MEDIA/catalog/pdf_UMCCatalogcatalog.pdf; Manufacturer P/N: 128-0711-201; Family: Connectors
footprint 128-0711-201
pins: 1, 2, 3

## USB-C Vertical Plug
designator X?
USB Type-C Connector DX07 Series Vertical Plug; Manufacturer: JAE Industry, Ltd.; Manufacturer P/N: DX07VN24WA2C1568; ComponentLink1URL: *; ComponentLink2Description: *; ComponentLink2URL: *; Family: Connector; Part: DX07VN24WA2C1568
footprint DX07VN24WA2C1568
part A pins: A1 GND, A2 TX1+, A3 TX1-, A4 Vbus, A5 CC, A6 D+, A7 D-, A8 SBU1, A9 Vbus, A10 RX2-, A11 RX2+, A12 GND
part B pins: B1 GND, B2 TX2+, B3 TX2-, B4 Vbus, B5 Vconn, B6, B7, B8 SBU2, B9 Vbus, B10 RX1-, B11 RX1+, B12 GND

## USB-C_DX07S024JA1
designator X?
USB Type-C_PCB; Manufacturer: JAE Industry, Ltd.; Manufacturer P/N: DX07S024JA1R1300; ComponentLink1Description: *; ComponentLink1URL: *; ComponentLink2Description: *; ComponentLink2URL: *; Family: Connectors; Part: DX07S024JA1R1300
footprint DX07S024JA1R1300
part A pins: A1 GND, A2 TX1+, A3 TX1-, A4 Vbus, A5 CC1, A6 D+, A7 D-, A8 SBU1, A9 Vbus, A10 RX2-, A11 RX2+, A12 GND
part B pins: B1 GND, B2 TX2+, B3 TX2-, B4 Vbus, B5 CC2, B6 D+, B7 D-, B8 SBU2, B9 Vbus, B10 RX1-, B11 RX1+, B12 GND, G GND